# Altium schematic symbol library Diodes.SchLib: 14 symbols
Pins are listed as number, name and electrical type; pins without a type are passive.

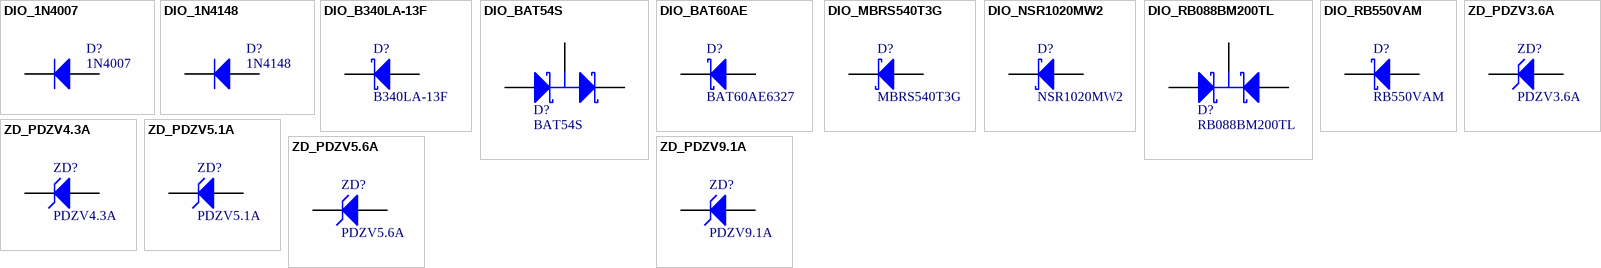
[diagram p0: symbols DIO_1N4007 to ZD_PDZV9.1A]

## DIO_1N4007
designator D?, comment 1N4007
Diode 1N4007 Rectifier  Axial, 1000V, 1A, TSC; Anunda_Code: M0329; MFG: Diodes Incorporated; MFG P/N: 1N4007-T; Published: 8-Jun-2000; LatestRevisionDate: 17-Jul-2002; LatestRevisionNote: Re-released for DXP Platform.; DatasheetVersion: 1997; PackageReference: DO-41; Publisher: Altium Limited; Value: 1N4007
signal-integrity model 1N4148
footprint DO-41 (Diode, Axial; Body 5.2 x 2.7 mm (LxDia. max), Lead Dia. 0.86 mm (max))
pins: 1 K, 2 A

## DIO_1N4148
designator D?, comment 1N4148
Diode 1N4148WS-7 Switch  SOD323 75V; Anunda_Code: M0334; MFG: Micro Commercial Components; MFG P/N: 1N4148WX-TP; Published: 8-Jun-2000; LatestRevisionDate: 17-Jul-2002; LatestRevisionNote: Re-released for DXP Platform.; DatasheetVersion: 1997; PackageReference: DO-35; Publisher: Altium Limited; Value: 1N4148
simulation model 1N4148 (DIODE)
signal-integrity model 1N4148
footprint SOD323
pins: 1 K, 2 A

## DIO_B340LA-13F
designator D?, comment B340LA-13F
Schottky Diode B340LA-13F; Published: 8-Jun-2000; LatestRevisionDate: 17-Jul-2002; LatestRevisionNote: Re-released for DXP Platform.; PackageReference: SMB; Publisher: Altium Limited; PackageDescription: DO-214-AA/SMB; 2 C-Bend Leads; Body 5.3 x 3.6 mm, inc. leads (LxW); Value: B340LA-13F
footprint SMA (DO-214AC Molded Diode, 2-Leads, Body 4.30x2.60mm, IPC Medium Density)
pins: 1 K, 2 A

## DIO_BAT54S
designator D?, comment BAT54S
Diode BAT54S Schottky Barrier Rectifier Diode 30V 200mA  SOT-23; Anunda_Code: M1880; MFG: Fairchild Semiconductor; MFG P/N: BAT54S_NL; Published: 17-Sep-2003; LatestRevisionDate: 12-Dec-2006; LatestRevisionNote: IPC-7351 Footprint Added.; DatasheetVersion: 4-Mar-2002; PackageVersion: May-1999; PackageReference: SOT23; Publisher: Altium Limited; PackageDescription: 3-Pin SOT-23 Package 0.95 mm Pitch, 2.3 mm Lead Span
footprint SOT23_N (SOT23, 3-Leads, Body 2.9x1.3mm, Pitch 0.95mm, Lead Span 2.3mm, IPC Medium Density)
footprint SOT23_L (SOT23, 3-Leads, Body 2.9x1.3mm, Pitch 0.95mm, Lead Span 2.3mm, IPC High Density)
footprint SOT23_M (SOT23, 3-Leads, Body 2.9x1.3mm, Pitch 0.95mm, Lead Span 2.3mm, IPC Low Density)
simulation model BAT54S (SUBCKT)
signal-integrity model BAT54S
footprint SOT23_N_2
pins: 1 A, 2 K, 3 C

## DIO_BAT60AE
designator D?, comment BAT60AE6327
BAT60AE6327INCT-ND Schottky Diode 10V 2A SOD-323; Note: Pin 2 is not connected and not drawn.; Anunda_Code: M1178; MFG: Infineon Technologies; MFG P/N: BAT60AE6327HTSA1; Published: 21-Mar-2003; LatestRevisionDate: 29-May-2009; LatestRevisionNote: IPC-7351 Footprint Added.; DatasheetVersion: Oct-1999; PackageVersion: Sep-2001; PackageReference: SOT-23; Publisher: Altium Limited; PackageDescription: 3-Pin SOT-23 Package 0.95 mm Pitch, 2.5 mm Lead Span; Value: BAT60AE6327
footprint SOD323
pins: 1 K, 2 A

## DIO_MBRS540T3G
designator D?, comment MBRS540T3G
DIODE MBRS540T3G SCHOTTKY 40V 5A; Anunda_Code: M2140; MFG: ON Semiconductor; Published: 8-Jun-2000; LatestRevisionDate: 17-Jul-2002; LatestRevisionNote: Re-released for DXP Platform.; PackageReference: SMB; Publisher: Altium Limited; PackageDescription: DO-214-AA/SMB; 2 C-Bend Leads; Body 5.3 x 3.6 mm, inc. leads (LxW); Value: MBRS540T3G; MFG P/N: MBRS540T3G
simulation model SKYDIODE (Diode)
signal-integrity model D Schottky
footprint DO-214AB (Molded Diode, 2-Leads, Body 6.88x5.90mm, IPC Medium Density)
pins: 1 K, 2 A

## DIO_NSR1020MW2
designator D?, comment NSR1020MW2
Schottky Diode NSR1020MW2; Published: 8-Jun-2000; LatestRevisionDate: 17-Jul-2002; LatestRevisionNote: Re-released for DXP Platform.; PackageReference: SMB; Publisher: Altium Limited; PackageDescription: DO-214-AA/SMB; 2 C-Bend Leads; Body 5.3 x 3.6 mm, inc. leads (LxW); Value: NSR1020MW2
footprint SOD323
pins: 1 K, 2 A

## DIO_RB088BM200TL
designator D?, comment RB088BM200TL
DIODE SCHOTTKY RB088BM200TL 200V REVERSE 10A; Anunda_Code: M2138; MFG: Rohm Semiconductor; Published: 17-Sep-2003; LatestRevisionDate: 12-Dec-2006; LatestRevisionNote: IPC-7351 Footprint Added.; DatasheetVersion: 4-Mar-2002; PackageVersion: May-1999; PackageReference: TO252; Publisher: Altium Limited; PackageDescription: DPAK TO-252; MFG P/N: RB088BM200TL
footprint TO-252 (D-PAK, 3-Pads, Body 6.4x6.8mm (max), IPC Medium Density)
pins: 1 A1, 2 K, 3 A2

## DIO_RB550VAM
designator D?, comment RB550VAM
Schottky Diode RB550VAM; Anunda_Code: M1913; MFG: Rohm Semiconductor; MFG P/N: RB550VAM-30TR; Published: 8-Jun-2000; LatestRevisionDate: 17-Jul-2002; LatestRevisionNote: Re-released for DXP Platform.; PackageReference: SMB; Publisher: Altium Limited; PackageDescription: DO-214-AA/SMB; 2 C-Bend Leads; Body 5.3 x 3.6 mm, inc. leads (LxW); Value: RB550VAM
simulation model SKYDIODE (Diode)
signal-integrity model D Schottky
footprint SOD323HE
pins: 1 K, 2 A

## ZD_PDZV3.6A
designator ZD?, comment PDZV3.6A
PDZV3.6A  Zener Diode 3.6V 1W ฑ6.19% Surface Mount PMDTM; Anunda_Code: M1967; MFG: Rohm Semiconductor; MFG P/N: PDZVTR3.6A; Published: 8-Jun-2000; LatestRevisionDate: 17-Jul-2002; LatestRevisionNote: Re-released for DXP Platform.; PackageReference: DIODE-0.7; Publisher: Altium Limited; PackageDescription: Diode, Thru-Hole; 2 Leads; 0.7 in Pin Spacing; Digi-Key: PDZVTR3.6ACT-ND
footprint SOD-128 (SODFL, 2-Leads, Body 2.50x4.70mm, IPC Medium Density)
pins: 1 K, 2 A

## ZD_PDZV4.3A
designator ZD?, comment PDZV4.3A
PDZV4.3A  Zener Diode 4.3V 1W ฑ6.19% Surface Mount PMDTM; Anunda_Code: M2001; MFG: Rohm Semiconductor; MFG P/N: PDZVTR4.3A; Published: 8-Jun-2000; LatestRevisionDate: 17-Jul-2002; LatestRevisionNote: Re-released for DXP Platform.; PackageReference: DIODE-0.7; Publisher: Altium Limited; PackageDescription: Diode, Thru-Hole; 2 Leads; 0.7 in Pin Spacing; Digi-Key: PDZVTR4.3ACT-ND
footprint SOD-128 (SODFL, 2-Leads, Body 2.50x4.70mm, IPC Medium Density)
pins: 1 K, 2 A

## ZD_PDZV5.1A
designator ZD?, comment PDZV5.1A
PDZV5.1A  Zener Diode 5.1V 1W ฑ6.19% Surface Mount PMDTM; Anunda_Code: M1926; MFG: Rohm Semiconductor; MFG P/N: PDZVTR5.1A; Published: 8-Jun-2000; LatestRevisionDate: 17-Jul-2002; LatestRevisionNote: Re-released for DXP Platform.; PackageReference: DIODE-0.7; Publisher: Altium Limited; PackageDescription: Diode, Thru-Hole; 2 Leads; 0.7 in Pin Spacing; Digi-Key: PDZVTR5.1ACT-ND
footprint SOD-128 (SODFL, 2-Leads, Body 2.50x4.70mm, IPC Medium Density)
pins: 1 K, 2 A

## ZD_PDZV5.6A
designator ZD?, comment PDZV5.6A
Diode PDZVTR5.6A Zener 5.65V 1W SOD-128; Anunda_Code: M1923; MFG: Rohm Semiconductor; Published: 8-Jun-2000; LatestRevisionDate: 17-Jul-2002; LatestRevisionNote: Re-released for DXP Platform.; PackageReference: DIODE-0.7; Publisher: Altium Limited; PackageDescription: Diode, Thru-Hole; 2 Leads; 0.7 in Pin Spacing; Digi-Key: PDZVTR5.6ACT-ND; MFG P/N: PDZVTR5.6A
footprint SOD-128 (SODFL, 2-Leads, Body 2.50x4.70mm, IPC Medium Density)
pins: 1 K, 2 A

## ZD_PDZV9.1A
designator ZD?, comment PDZV9.1A
PDZV9.1A  Zener Diode 9.1V 1W ฑ6.19% Surface Mount PMDTM; Anunda_Code: M1925; MFG: Rohm Semiconductor; MFG P/N: PDZVTR9.1A; Published: 8-Jun-2000; LatestRevisionDate: 17-Jul-2002; LatestRevisionNote: Re-released for DXP Platform.; PackageReference: DIODE-0.7; Publisher: Altium Limited; PackageDescription: Diode, Thru-Hole; 2 Leads; 0.7 in Pin Spacing; Digi-Key: PDZVTR9.1ACT-ND
footprint SOD-128 (SODFL, 2-Leads, Body 2.50x4.70mm, IPC Medium Density)
pins: 1 K, 2 A